# Altium integrated library Linear Technology Power Management Switching Regulator LT1074-LT8705.IntLib: 2252 symbols (part 102 of 148)
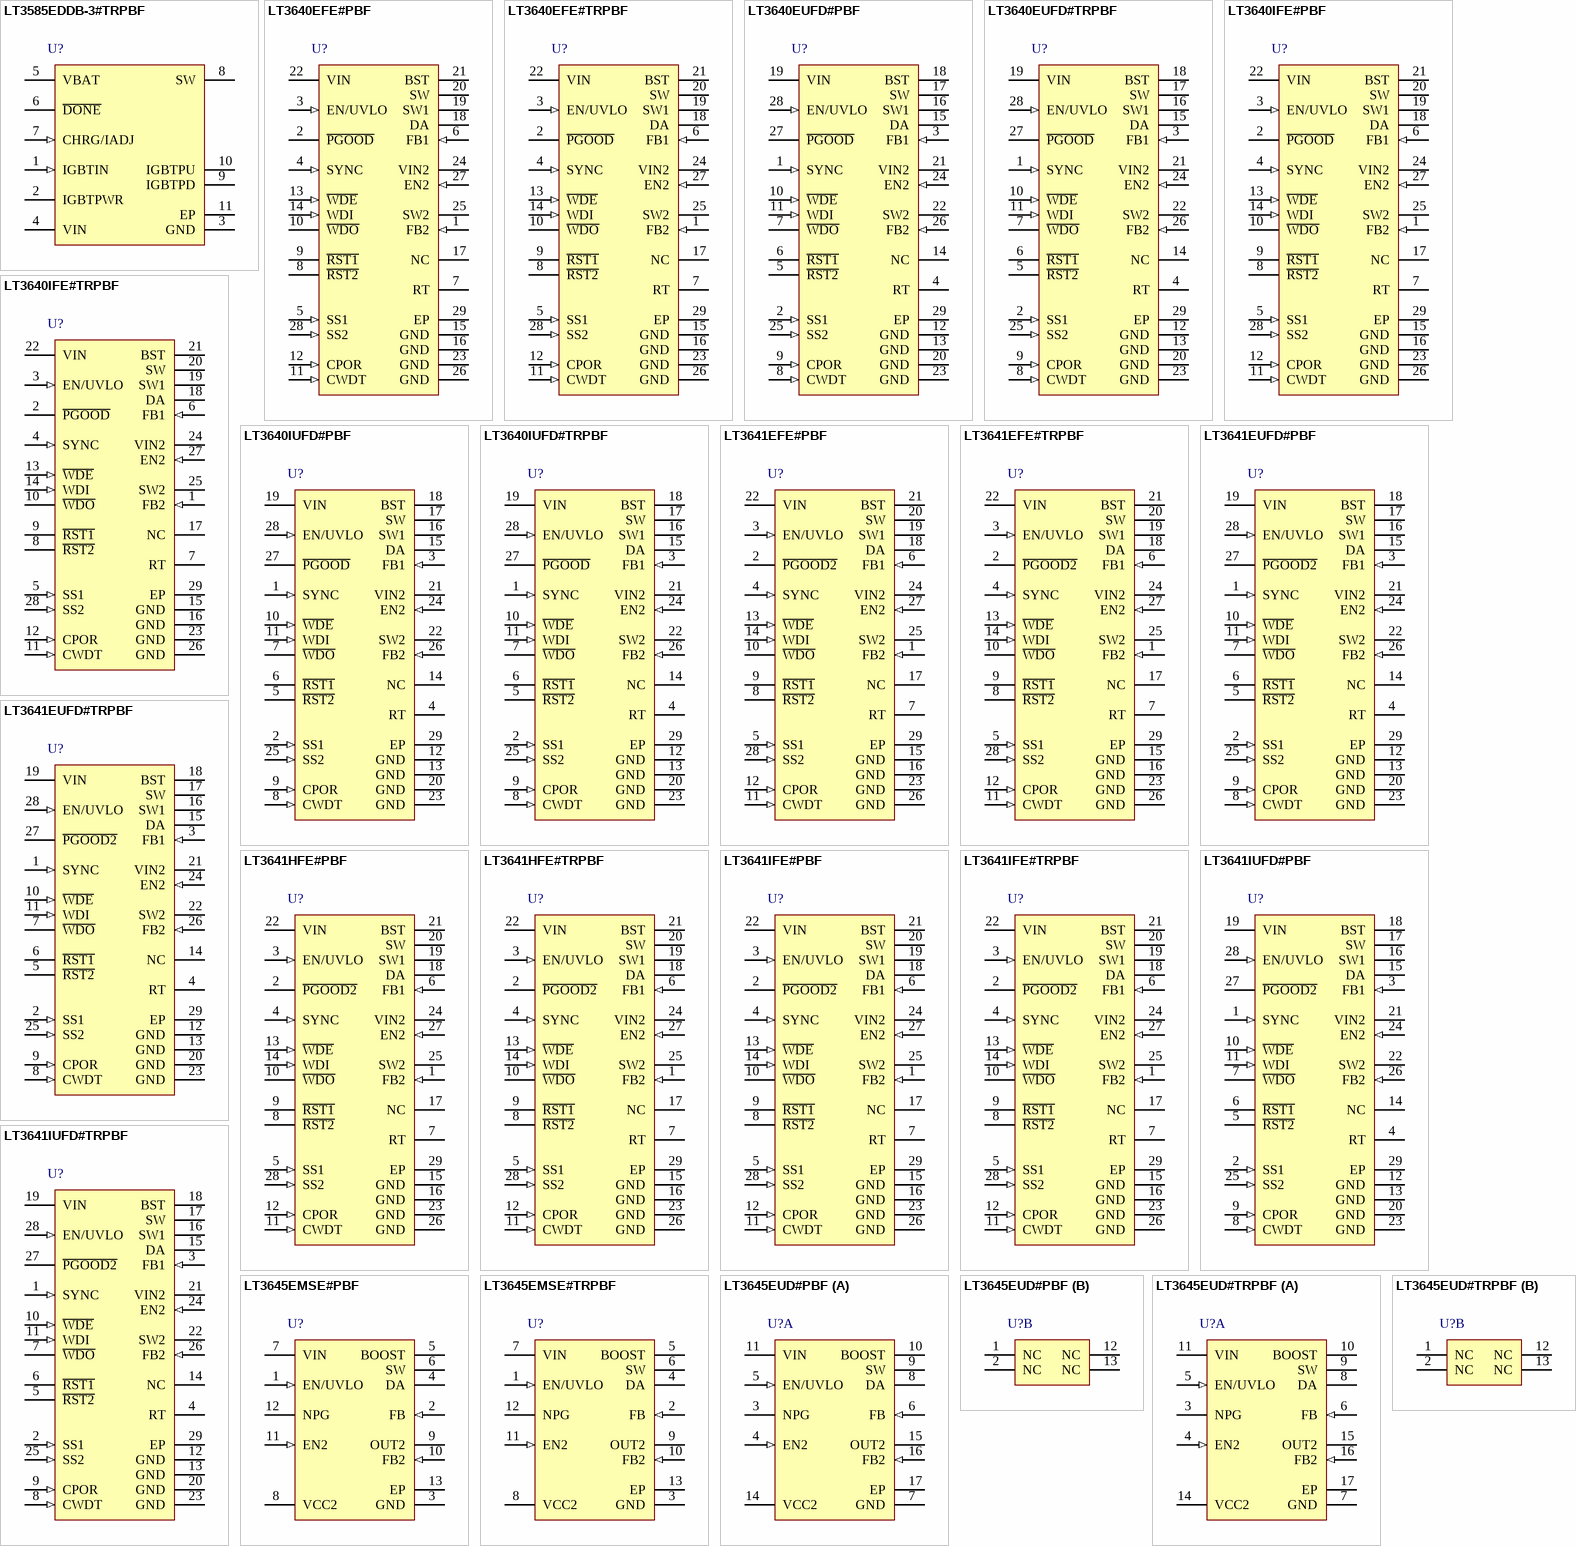
[diagram p172: symbols LT3585EDDB-3#TRPBF to LT3645EUD#TRPBF]

## LT3640IUFD#PBF
designator U?
Dual Monolithic Buck Regulator with Power-On Reset and Watchdog Timer, 28-pin QFN (UFD-28), -40 to 125 degC, Pb-Free; Manufacturer: Linear Technology; PartNumber: LT3640IUFD#PBF; Frequency Adjust Range: 350kHz - 2.5MHz; Number of Outputs: 2; Over Voltage Protection(V): 55; PackageVersion: Rev. B, 06/2010; PackageReference: UFD-28; PackageDescription: 28-Pin Plastic QFN, Body 5 x 4 mm, Pitch 0.5 mm; Supplier 1: Digi-Key; Supplier Part Number 1: LT3640IUFD#PBF-ND; RoHS: TRUE; Mounting Technology: Surface Mount; Code_JEDEC: MO-220; ComponentLink1Description: Manufacturer URL; ComponentLink1URL: http://www.linear.com/; ComponentLink2Description: Datasheet; ComponentLink2URL: http://cds.linear.com/docs/en/datasheet/3640f.pdf; ComponentLink3Description: Package Specification; ComponentLink3URL: http://cds.linear.com/docs/en/packaging/QFN_28_05-08-1712.pdf
footprint LT-UFD-28_N (QFN, 28-Leads, Body 5.1x4.1mm, Pitch 0.5mm, Thermal Pad 3.65x2.65mm, IPC Medium Density)
footprint LT-UFD-28_L (QFN, 28-Leads, Body 5.1x4.1mm, Pitch 0.5mm, Thermal Pad 3.65x2.65mm, IPC High Density)
footprint LT-UFD-28_M (QFN, 28-Leads, Body 5.1x4.1mm, Pitch 0.5mm, Thermal Pad 3.65x2.65mm, IPC Low Density)
pins: 1 SYNC (in) "Driving the SYNC pin with an external clock signal synchronizes both converters to the applied frequency. The lowest external clock frequency should be 20% higher than the internal oscillator frequency.", 2 SS1 (in) "The SS1 pin sets the FB1 voltage externally between 0V and 1.265V, providing soft-start and tracking. Tie this pin 1.5V or higher to use the internal 1.265V reference. A capacitor to ground at this pin sets the ramp time to (See Datasheet)", 3 FB1 (in) "The high voltage converter regulates the FB1 pin to 1.265V. Connect the feedback resistor divider tap to this pin to set output voltage.", 4 RT "Oscillator Resistor Input. Connecting a resistor to ground from this pin sets the internal oscillator frequency.", 5 ~{RST2} (oc) "Open-drain logic output that remains asserted for the period set by the CPOR pin capacitor after FB2 goes above 550mV.", 6 ~{RST1} (oc) "Open-drain logic output that remains asserted for the period set by the CPOR pin capacitor after FB1 goes above 1.165V.", 7 ~{WDO} (oc) "Open-drain logic output that remains asserted for the period set by the CPOR pin capacitor if W\D\E\ is enabled and WDI pin is not driven by an appropriate signal.", 8 CWDT (in) "Connect a capacitor to ground at this pin to set watchdog timer.", 9 CPOR (in) "Connect a capacitor to ground at this pin to set the power-on reset timer and W\D\O\ output timer.", 10 ~{WDE} (in) "Watchdog Enable Pin.", 11 WDI (in) "The WDI pin receives watchdog signals from a microprocessor.", 12 GND (power) "Ground. These pins must be soldered to PCB ground.", 13 GND (power) "Ground. These pins must be soldered to PCB ground.", 14 NC "Not Connected. This pin can be connected to ground.", 15 DA "The DA pin is used to sense the catch diode current for current limit and protection. Connect this pin to catch diode anode.", 16 SW1 (power) "Output of the High Voltage Internal Power Switch. Connect this pin to the inductor and catch diode cathode.", 17 SW "The SW pin is used to charge the boost capacitor. Connect this pin to the boost capacitor.", 18 BST "The BST pin is used to provide a drive voltage, higher than VIN pin voltage, to the high voltage channel internal power switch. Connect an external boost diode to this pin.", 19 VIN (power) "The VIN pin supplies current to the LT3640’s internal circuitry and to the high voltage channel internal power switch. This pin must be locally bypassed.", 20 GND (power) "Ground. These pins must be soldered to PCB ground.", 21 VIN2 (power) "The VIN2 pin supplies current to the internal power MOSFET of the low voltage converter and to the LT3640’s internal circuitry when VIN2 is above 3V.", 22 SW2 (power) "Switch Node of the Low Voltage Converter. Connect this pin to an inductor.", 23 GND (power) "Ground. These pins must be soldered to PCB ground.", 24 EN2 (in) "Low Voltage Converter Enable Pin. Pull this pin below 0.3V to shut down the low voltage converter. Pull this pin above 1.5V to enable the low voltage converter.", 25 SS2 (in) "The SS2 pin sets the FB2 voltage externally between 0V and 0.6V, providing soft-start and tracking. Tie this pin 0.8V or higher to use the internal 0.6V reference. A capacitor to ground at this pin sets the ramp time to (See Datasheet)", 26 FB2 (in) "The low voltage converter regulates the FB2 pin to 600mV. Connect the feedback resistor divider tap to this pin to set output voltage.", 27 ~{PGOOD} (oc) "Open-drain logic output that starts to sink current when FB2 is in regulation.", 28 EN/UVLO (in) "Pull this pin below 0.3V to shut down the LT3640. The 1.26V threshold can function as an accurate undervoltage lockout, preventing the LT3640 from operating until VIN voltage has reached the programmed level.", 29 EP (power) "Ground. These pins must be soldered to PCB ground."

## LT3640IUFD#TRPBF
designator U?
Dual Monolithic Buck Regulator with Power-On Reset and Watchdog Timer, 28-pin QFN (UFD-28), -40 to 125 degC, Pb-Free, Tape and Reel; Manufacturer: Linear Technology; PartNumber: LT3640IUFD#TRPBF; Frequency Adjust Range: 350kHz - 2.5MHz; Number of Outputs: 2; Over Voltage Protection(V): 55; PackageVersion: Rev. B, 06/2010; PackageReference: UFD-28; PackageDescription: 28-Pin Plastic QFN, Body 5 x 4 mm, Pitch 0.5 mm; Supplier 1: Digi-Key; Supplier Part Number 1: LT3640IUFD#TRPBF-ND; Packing: Tape and Reel; RoHS: TRUE; Mounting Technology: Surface Mount; Code_JEDEC: MO-220; ComponentLink1Description: Manufacturer URL; ComponentLink1URL: http://www.linear.com/; ComponentLink2Description: Datasheet; ComponentLink2URL: http://cds.linear.com/docs/en/datasheet/3640f.pdf; ComponentLink3Description: Package Specification; ComponentLink3URL: http://cds.linear.com/docs/en/packaging/QFN_28_05-08-1712.pdf
footprint LT-UFD-28_N (QFN, 28-Leads, Body 5.1x4.1mm, Pitch 0.5mm, Thermal Pad 3.65x2.65mm, IPC Medium Density)
footprint LT-UFD-28_L (QFN, 28-Leads, Body 5.1x4.1mm, Pitch 0.5mm, Thermal Pad 3.65x2.65mm, IPC High Density)
footprint LT-UFD-28_M (QFN, 28-Leads, Body 5.1x4.1mm, Pitch 0.5mm, Thermal Pad 3.65x2.65mm, IPC Low Density)
pins: 1 SYNC (in) "Driving the SYNC pin with an external clock signal synchronizes both converters to the applied frequency. The lowest external clock frequency should be 20% higher than the internal oscillator frequency.", 2 SS1 (in) "The SS1 pin sets the FB1 voltage externally between 0V and 1.265V, providing soft-start and tracking. Tie this pin 1.5V or higher to use the internal 1.265V reference. A capacitor to ground at this pin sets the ramp time to (See Datasheet)", 3 FB1 (in) "The high voltage converter regulates the FB1 pin to 1.265V. Connect the feedback resistor divider tap to this pin to set output voltage.", 4 RT "Oscillator Resistor Input. Connecting a resistor to ground from this pin sets the internal oscillator frequency.", 5 ~{RST2} (oc) "Open-drain logic output that remains asserted for the period set by the CPOR pin capacitor after FB2 goes above 550mV.", 6 ~{RST1} (oc) "Open-drain logic output that remains asserted for the period set by the CPOR pin capacitor after FB1 goes above 1.165V.", 7 ~{WDO} (oc) "Open-drain logic output that remains asserted for the period set by the CPOR pin capacitor if W\D\E\ is enabled and WDI pin is not driven by an appropriate signal.", 8 CWDT (in) "Connect a capacitor to ground at this pin to set watchdog timer.", 9 CPOR (in) "Connect a capacitor to ground at this pin to set the power-on reset timer and W\D\O\ output timer.", 10 ~{WDE} (in) "Watchdog Enable Pin.", 11 WDI (in) "The WDI pin receives watchdog signals from a microprocessor.", 12 GND (power) "Ground. These pins must be soldered to PCB ground.", 13 GND (power) "Ground. These pins must be soldered to PCB ground.", 14 NC "Not Connected. This pin can be connected to ground.", 15 DA "The DA pin is used to sense the catch diode current for current limit and protection. Connect this pin to catch diode anode.", 16 SW1 (power) "Output of the High Voltage Internal Power Switch. Connect this pin to the inductor and catch diode cathode.", 17 SW "The SW pin is used to charge the boost capacitor. Connect this pin to the boost capacitor.", 18 BST "The BST pin is used to provide a drive voltage, higher than VIN pin voltage, to the high voltage channel internal power switch. Connect an external boost diode to this pin.", 19 VIN (power) "The VIN pin supplies current to the LT3640’s internal circuitry and to the high voltage channel internal power switch. This pin must be locally bypassed.", 20 GND (power) "Ground. These pins must be soldered to PCB ground.", 21 VIN2 (power) "The VIN2 pin supplies current to the internal power MOSFET of the low voltage converter and to the LT3640’s internal circuitry when VIN2 is above 3V.", 22 SW2 (power) "Switch Node of the Low Voltage Converter. Connect this pin to an inductor.", 23 GND (power) "Ground. These pins must be soldered to PCB ground.", 24 EN2 (in) "Low Voltage Converter Enable Pin. Pull this pin below 0.3V to shut down the low voltage converter. Pull this pin above 1.5V to enable the low voltage converter.", 25 SS2 (in) "The SS2 pin sets the FB2 voltage externally between 0V and 0.6V, providing soft-start and tracking. Tie this pin 0.8V or higher to use the internal 0.6V reference. A capacitor to ground at this pin sets the ramp time to (See Datasheet)", 26 FB2 (in) "The low voltage converter regulates the FB2 pin to 600mV. Connect the feedback resistor divider tap to this pin to set output voltage.", 27 ~{PGOOD} (oc) "Open-drain logic output that starts to sink current when FB2 is in regulation.", 28 EN/UVLO (in) "Pull this pin below 0.3V to shut down the LT3640. The 1.26V threshold can function as an accurate undervoltage lockout, preventing the LT3640 from operating until VIN voltage has reached the programmed level.", 29 EP (power) "Ground. These pins must be soldered to PCB ground."

## LT3641EFE#PBF
designator U?
Dual Monolithic Buck Regulator with Power on Reset and Watchdog Timer, 28-pin SOP (FE-28-EPV-EB), -40 to 125 degC, Pb-Free; Manufacturer: Linear Technology; PartNumber: LT3641EFE#PBF; Frequency Adjust Range: 350kHz - 2.5MHz; Number of Outputs: 2; Over Voltage Protection(V): 55; DatasheetVersion: Rev. A; PackageVersion: Rev. J, 11/2012; PackageReference: FE-28; PackageDescription: 28-Pin Plastic TSSOP, Body 9.7 x 4.4 mm, Pitch 0.65 mm; Supplier 1: Digi-Key; Supplier Part Number 1: LT3641EFE#PBF-ND; Supplier 2: Farnell; Supplier Part Number 2: 2009062; RoHS: TRUE; Mounting Technology: Surface Mount; ComponentLink1Description: Manufacturer URL; ComponentLink1URL: http://www.linear.com/; ComponentLink2Description: Datasheet; ComponentLink2URL: http://cds.linear.com/docs/en/datasheet/3641fa.pdf; ComponentLink3Description: Package Specification; ComponentLink3URL: http://cds.linear.com/docs/en/packaging/05081663__J_FE28(EB).pdf
footprint LT-FE-28-EPV-EB_N (SOP, 28-Leads, Body 9.8x4.5mm, Pitch 0.65mm, Thermal Pad 4.75x2.74mm, IPC Medium Density)
footprint LT-FE-28-EPV-EB_L (SOP, 28-Leads, Body 9.8x4.5mm, Pitch 0.65mm, Thermal Pad 4.75x2.74mm, IPC High Density)
footprint LT-FE-28-EPV-EB_M (SOP, 28-Leads, Body 9.8x4.5mm, Pitch 0.65mm, Thermal Pad 4.75x2.74mm, IPC Low Density)
pins: 1 FB2 (in) "The low voltage converter regulates the FB2 pin to 600mV. Connect the feedback resistor divider tap to this pin to set output voltage.", 2 ~{PGOOD2} (oc) "Open-drain logic output that starts to sink current when FB2 is in regulation.", 3 EN/UVLO (in) "Pull this pin below 0.3V to shut down the LT3641. The 1.26V threshold can function as an accurate undervoltage lockout, preventing the LT3641 from operating until VIN voltage has reached the programmed level.", 4 SYNC (in) "Driving the SYNC pin with an external clock signal synchronizes both converters to the applied frequency. The lowest external clock frequency should be 20% higher than the internal oscillator frequency.", 5 SS1 (in) "The SS1 pin sets the FB1 voltage externally between 0V and 1.265V, providing soft-start and tracking. Tie this pin 1.5V or higher to use the internal 1.265V reference. A capacitor to ground at this pin sets the ramp time to (See Datasheet)", 6 FB1 (in) "The high voltage converter regulates the FB1 pin to 1.265V. Connect the feedback resistor divider tap to this pin to set output voltage.", 7 RT "Oscillator Resistor Input. Connecting a resistor to ground from this pin sets the internal oscillator frequency.", 8 ~{RST2} (oc) "Open-drain logic output that remains asserted for the period set by the CPOR pin capacitor after FB2 goes above 550mV.", 9 ~{RST1} (oc) "Open-drain logic output that remains asserted for the period set by the CPOR pin capacitor after FB1 goes above 1.165V.", 10 ~{WDO} (oc) "Open-drain logic output that remains asserted for the period set by the CPOR pin capacitor if W\D\E\ is enabled and WDI pin is not driven by an appropriate signal.", 11 CWDT (in) "Connect a capacitor to ground at this pin to set watchdog timer.", 12 CPOR (in) "Connect a capacitor to ground at this pin to set the power-on reset timer and W\D\O\ output timer.", 13 ~{WDE} (in) "Watchdog Enable Pin.", 14 WDI (in) "The WDI pin receives watchdog signals from a microprocessor.", 15 GND (power) "Ground. These pins must be soldered to PCB ground.", 16 GND (power) "Ground. These pins must be soldered to PCB ground.", 17 NC "Not Connected. This pin can be connected to ground.", 18 DA "The DA pin is used to sense the catch diode current for current limit and protection. Connect this pin to catch diode anode.", 19 SW1 (power) "Output of the High Voltage Internal Power Switch. Connect this pin to the inductor and catch diode cathode.", 20 SW "The SW pin is used to charge the boost capacitor. Connect this pin to the boost capacitor", 21 BST "The BST pin is used to provide a drive voltage, higher than VIN pin voltage, to the high voltage channel internal power switch. Connect an external boost diode to this pin.", 22 VIN (power) "The VIN pin supplies current to the LT3641’s internal circuitry and to the high voltage channel internal power switch. This pin must be locally bypassed.", 23 GND (power) "Ground. These pins must be soldered to PCB ground.", 24 VIN2 (power) "The VIN2 pin supplies current to the internal power MOSFET of the low voltage converter and to the LT3641’s internal circuitry when VIN2 is above 3V.", 25 SW2 (power) "Switch Node of the Low Voltage Converter. Connect this pin to an inductor.", 26 GND (power) "Ground. These pins must be soldered to PCB ground.", 27 EN2 (in) "Low Voltage Converter Enable Pin. The enable threshold is 100mV below FB1 target voltage. The disable threshold has 50mV hysteresis. The accurate threshold can function as an accurate undervoltage lockout.", 28 SS2 (in) "The SS2 pin sets the FB2 voltage externally between 0V and 0.6V, providing soft-start and tracking. Tie this pin 0.8V or higher to use the internal 0.6V reference. A capacitor to ground at this pin sets the ramp time to (See Datasheet)", 29 EP (power) "Ground. These pins must be soldered to PCB ground."

## LT3641EFE#TRPBF
designator U?
Dual Monolithic Buck Regulator with Power on Reset and Watchdog Timer, 28-pin SOP (FE-28-EPV-EB), -40 to 125 degC, Pb-Free, Tape and Reel; Manufacturer: Linear Technology; PartNumber: LT3641EFE#TRPBF; Frequency Adjust Range: 350kHz - 2.5MHz; Number of Outputs: 2; Over Voltage Protection(V): 55; DatasheetVersion: Rev. A; PackageVersion: Rev. J, 11/2012; PackageReference: FE-28; PackageDescription: 28-Pin Plastic TSSOP, Body 9.7 x 4.4 mm, Pitch 0.65 mm; Supplier 1: Digi-Key; Supplier Part Number 1: LT3641EFE#TRPBF-ND; Packing: Tape and Reel; RoHS: TRUE; Mounting Technology: Surface Mount; ComponentLink1Description: Manufacturer URL; ComponentLink1URL: http://www.linear.com/; ComponentLink2Description: Datasheet; ComponentLink2URL: http://cds.linear.com/docs/en/datasheet/3641fa.pdf; ComponentLink3Description: Package Specification; ComponentLink3URL: http://cds.linear.com/docs/en/packaging/05081663__J_FE28(EB).pdf
footprint LT-FE-28-EPV-EB_N (SOP, 28-Leads, Body 9.8x4.5mm, Pitch 0.65mm, Thermal Pad 4.75x2.74mm, IPC Medium Density)
footprint LT-FE-28-EPV-EB_L (SOP, 28-Leads, Body 9.8x4.5mm, Pitch 0.65mm, Thermal Pad 4.75x2.74mm, IPC High Density)
footprint LT-FE-28-EPV-EB_M (SOP, 28-Leads, Body 9.8x4.5mm, Pitch 0.65mm, Thermal Pad 4.75x2.74mm, IPC Low Density)
pins: 1 FB2 (in) "The low voltage converter regulates the FB2 pin to 600mV. Connect the feedback resistor divider tap to this pin to set output voltage.", 2 ~{PGOOD2} (oc) "Open-drain logic output that starts to sink current when FB2 is in regulation.", 3 EN/UVLO (in) "Pull this pin below 0.3V to shut down the LT3641. The 1.26V threshold can function as an accurate undervoltage lockout, preventing the LT3641 from operating until VIN voltage has reached the programmed level.", 4 SYNC (in) "Driving the SYNC pin with an external clock signal synchronizes both converters to the applied frequency. The lowest external clock frequency should be 20% higher than the internal oscillator frequency.", 5 SS1 (in) "The SS1 pin sets the FB1 voltage externally between 0V and 1.265V, providing soft-start and tracking. Tie this pin 1.5V or higher to use the internal 1.265V reference. A capacitor to ground at this pin sets the ramp time to (See Datasheet)", 6 FB1 (in) "The high voltage converter regulates the FB1 pin to 1.265V. Connect the feedback resistor divider tap to this pin to set output voltage.", 7 RT "Oscillator Resistor Input. Connecting a resistor to ground from this pin sets the internal oscillator frequency.", 8 ~{RST2} (oc) "Open-drain logic output that remains asserted for the period set by the CPOR pin capacitor after FB2 goes above 550mV.", 9 ~{RST1} (oc) "Open-drain logic output that remains asserted for the period set by the CPOR pin capacitor after FB1 goes above 1.165V.", 10 ~{WDO} (oc) "Open-drain logic output that remains asserted for the period set by the CPOR pin capacitor if W\D\E\ is enabled and WDI pin is not driven by an appropriate signal.", 11 CWDT (in) "Connect a capacitor to ground at this pin to set watchdog timer.", 12 CPOR (in) "Connect a capacitor to ground at this pin to set the power-on reset timer and W\D\O\ output timer.", 13 ~{WDE} (in) "Watchdog Enable Pin.", 14 WDI (in) "The WDI pin receives watchdog signals from a microprocessor.", 15 GND (power) "Ground. These pins must be soldered to PCB ground.", 16 GND (power) "Ground. These pins must be soldered to PCB ground.", 17 NC "Not Connected. This pin can be connected to ground.", 18 DA "The DA pin is used to sense the catch diode current for current limit and protection. Connect this pin to catch diode anode.", 19 SW1 (power) "Output of the High Voltage Internal Power Switch. Connect this pin to the inductor and catch diode cathode.", 20 SW "The SW pin is used to charge the boost capacitor. Connect this pin to the boost capacitor", 21 BST "The BST pin is used to provide a drive voltage, higher than VIN pin voltage, to the high voltage channel internal power switch. Connect an external boost diode to this pin.", 22 VIN (power) "The VIN pin supplies current to the LT3641’s internal circuitry and to the high voltage channel internal power switch. This pin must be locally bypassed.", 23 GND (power) "Ground. These pins must be soldered to PCB ground.", 24 VIN2 (power) "The VIN2 pin supplies current to the internal power MOSFET of the low voltage converter and to the LT3641’s internal circuitry when VIN2 is above 3V.", 25 SW2 (power) "Switch Node of the Low Voltage Converter. Connect this pin to an inductor.", 26 GND (power) "Ground. These pins must be soldered to PCB ground.", 27 EN2 (in) "Low Voltage Converter Enable Pin. The enable threshold is 100mV below FB1 target voltage. The disable threshold has 50mV hysteresis. The accurate threshold can function as an accurate undervoltage lockout.", 28 SS2 (in) "The SS2 pin sets the FB2 voltage externally between 0V and 0.6V, providing soft-start and tracking. Tie this pin 0.8V or higher to use the internal 0.6V reference. A capacitor to ground at this pin sets the ramp time to (See Datasheet)", 29 EP (power) "Ground. These pins must be soldered to PCB ground."

## LT3641EUFD#PBF
designator U?
Dual Monolithic Buck Regulator with Power on Reset and Watchdog Timer, 28-pin QFN (UFD-28), -40 to 125 degC, Pb-Free; Manufacturer: Linear Technology; PartNumber: LT3641EUFD#PBF; Frequency Adjust Range: 350kHz - 2.5MHz; Number of Outputs: 2; Over Voltage Protection(V): 55; DatasheetVersion: Rev. A; PackageVersion: Rev. B, 06/2010; PackageReference: UFD-28; PackageDescription: 28-Pin Plastic QFN, Body 5 x 4 mm, Pitch 0.5 mm; Supplier 1: Digi-Key; Supplier Part Number 1: LT3641EUFD#PBF-ND; RoHS: TRUE; Mounting Technology: Surface Mount; Code_JEDEC: MO-220; ComponentLink1Description: Manufacturer URL; ComponentLink1URL: http://www.linear.com/; ComponentLink2Description: Datasheet; ComponentLink2URL: http://cds.linear.com/docs/en/datasheet/3641fa.pdf; ComponentLink3Description: Package Specification; ComponentLink3URL: http://cds.linear.com/docs/en/packaging/QFN_28_05-08-1712.pdf
footprint LT-UFD-28_N (QFN, 28-Leads, Body 5.1x4.1mm, Pitch 0.5mm, Thermal Pad 3.65x2.65mm, IPC Medium Density)
footprint LT-UFD-28_L (QFN, 28-Leads, Body 5.1x4.1mm, Pitch 0.5mm, Thermal Pad 3.65x2.65mm, IPC High Density)
footprint LT-UFD-28_M (QFN, 28-Leads, Body 5.1x4.1mm, Pitch 0.5mm, Thermal Pad 3.65x2.65mm, IPC Low Density)
pins: 1 SYNC (in) "Driving the SYNC pin with an external clock signal synchronizes both converters to the applied frequency. The lowest external clock frequency should be 20% higher than the internal oscillator frequency.", 2 SS1 (in) "The SS1 pin sets the FB1 voltage externally between 0V and 1.265V, providing soft-start and tracking. Tie this pin 1.5V or higher to use the internal 1.265V reference. A capacitor to ground at this pin sets the ramp time to (See Datasheet)", 3 FB1 (in) "The high voltage converter regulates the FB1 pin to 1.265V. Connect the feedback resistor divider tap to this pin to set output voltage.", 4 RT "Oscillator Resistor Input. Connecting a resistor to ground from this pin sets the internal oscillator frequency.", 5 ~{RST2} (oc) "Open-drain logic output that remains asserted for the period set by the CPOR pin capacitor after FB2 goes above 550mV.", 6 ~{RST1} (oc) "Open-drain logic output that remains asserted for the period set by the CPOR pin capacitor after FB1 goes above 1.165V.", 7 ~{WDO} (oc) "Open-drain logic output that remains asserted for the period set by the CPOR pin capacitor if W\D\E\ is enabled and WDI pin is not driven by an appropriate signal.", 8 CWDT (in) "Connect a capacitor to ground at this pin to set watchdog timer.", 9 CPOR (in) "Connect a capacitor to ground at this pin to set the power-on reset timer and W\D\O\ output timer.", 10 ~{WDE} (in) "Watchdog Enable Pin.", 11 WDI (in) "The WDI pin receives watchdog signals from a microprocessor.", 12 GND (power) "Ground. These pins must be soldered to PCB ground.", 13 GND (power) "Ground. These pins must be soldered to PCB ground.", 14 NC "Not Connected. This pin can be connected to ground.", 15 DA "The DA pin is used to sense the catch diode current for current limit and protection. Connect this pin to catch diode anode.", 16 SW1 (power) "Output of the High Voltage Internal Power Switch. Connect this pin to the inductor and catch diode cathode.", 17 SW "The SW pin is used to charge the boost capacitor. Connect this pin to the boost capacitor", 18 BST (power) "The BST pin is used to provide a drive voltage, higher than VIN pin voltage, to the high voltage channel internal power switch. Connect an external boost diode to this pin.", 19 VIN (power) "The VIN pin supplies current to the LT3641’s internal circuitry and to the high voltage channel internal power switch. This pin must be locally bypassed.", 20 GND (power) "Ground. These pins must be soldered to PCB ground.", 21 VIN2 (power) "The VIN2 pin supplies current to the internal power MOSFET of the low voltage converter and to the LT3641’s internal circuitry when VIN2 is above 3V.", 22 SW2 (power) "Switch Node of the Low Voltage Converter. Connect this pin to an inductor.", 23 GND (power) "Ground. These pins must be soldered to PCB ground.", 24 EN2 (in) "Low Voltage Converter Enable Pin. The enable threshold is 100mV below FB1 target voltage. The disable threshold has 50mV hysteresis. The accurate threshold can function as an accurate undervoltage lockout.", 25 SS2 (in) "The SS2 pin sets the FB2 voltage externally between 0V and 0.6V, providing soft-start and tracking. Tie this pin 0.8V or higher to use the internal 0.6V reference. A capacitor to ground at this pin sets the ramp time to (See Datasheet)", 26 FB2 (in) "The low voltage converter regulates the FB2 pin to 600mV. Connect the feedback resistor divider tap to this pin to set output voltage.", 27 ~{PGOOD2} (oc) "Open-drain logic output that starts to sink current when FB2 is in regulation.", 28 EN/UVLO (in) "Pull this pin below 0.3V to shut down the LT3641. The 1.26V threshold can function as an accurate undervoltage lockout, preventing the LT3641 from operating until VIN voltage has reached the programmed level.", 29 EP (power) "Ground. These pins must be soldered to PCB ground."

## LT3641EUFD#TRPBF
designator U?
Dual Monolithic Buck Regulator with Power on Reset and Watchdog Timer, 28-pin QFN (UFD-28), -40 to 125 degC, Pb-Free, Tape and Reel; Manufacturer: Linear Technology; PartNumber: LT3641EUFD#TRPBF; Frequency Adjust Range: 350kHz - 2.5MHz; Number of Outputs: 2; Over Voltage Protection(V): 55; DatasheetVersion: Rev. A; PackageVersion: Rev. B, 06/2010; PackageReference: UFD-28; PackageDescription: 28-Pin Plastic QFN, Body 5 x 4 mm, Pitch 0.5 mm; Supplier 1: Digi-Key; Supplier Part Number 1: LT3641EUFD#TRPBF-ND; Packing: Tape and Reel; RoHS: TRUE; Mounting Technology: Surface Mount; Code_JEDEC: MO-220; ComponentLink1Description: Manufacturer URL; ComponentLink1URL: http://www.linear.com/; ComponentLink2Description: Datasheet; ComponentLink2URL: http://cds.linear.com/docs/en/datasheet/3641fa.pdf; ComponentLink3Description: Package Specification; ComponentLink3URL: http://cds.linear.com/docs/en/packaging/QFN_28_05-08-1712.pdf
footprint LT-UFD-28_N (QFN, 28-Leads, Body 5.1x4.1mm, Pitch 0.5mm, Thermal Pad 3.65x2.65mm, IPC Medium Density)
footprint LT-UFD-28_L (QFN, 28-Leads, Body 5.1x4.1mm, Pitch 0.5mm, Thermal Pad 3.65x2.65mm, IPC High Density)
footprint LT-UFD-28_M (QFN, 28-Leads, Body 5.1x4.1mm, Pitch 0.5mm, Thermal Pad 3.65x2.65mm, IPC Low Density)
pins: 1 SYNC (in) "Driving the SYNC pin with an external clock signal synchronizes both converters to the applied frequency. The lowest external clock frequency should be 20% higher than the internal oscillator frequency.", 2 SS1 (in) "The SS1 pin sets the FB1 voltage externally between 0V and 1.265V, providing soft-start and tracking. Tie this pin 1.5V or higher to use the internal 1.265V reference. A capacitor to ground at this pin sets the ramp time to (See Datasheet)", 3 FB1 (in) "The high voltage converter regulates the FB1 pin to 1.265V. Connect the feedback resistor divider tap to this pin to set output voltage.", 4 RT "Oscillator Resistor Input. Connecting a resistor to ground from this pin sets the internal oscillator frequency.", 5 ~{RST2} (oc) "Open-drain logic output that remains asserted for the period set by the CPOR pin capacitor after FB2 goes above 550mV.", 6 ~{RST1} (oc) "Open-drain logic output that remains asserted for the period set by the CPOR pin capacitor after FB1 goes above 1.165V.", 7 ~{WDO} (oc) "Open-drain logic output that remains asserted for the period set by the CPOR pin capacitor if W\D\E\ is enabled and WDI pin is not driven by an appropriate signal.", 8 CWDT (in) "Connect a capacitor to ground at this pin to set watchdog timer.", 9 CPOR (in) "Connect a capacitor to ground at this pin to set the power-on reset timer and W\D\O\ output timer.", 10 ~{WDE} (in) "Watchdog Enable Pin.", 11 WDI (in) "The WDI pin receives watchdog signals from a microprocessor.", 12 GND (power) "Ground. These pins must be soldered to PCB ground.", 13 GND (power) "Ground. These pins must be soldered to PCB ground.", 14 NC "Not Connected. This pin can be connected to ground.", 15 DA "The DA pin is used to sense the catch diode current for current limit and protection. Connect this pin to catch diode anode.", 16 SW1 (power) "Output of the High Voltage Internal Power Switch. Connect this pin to the inductor and catch diode cathode.", 17 SW "The SW pin is used to charge the boost capacitor. Connect this pin to the boost capacitor", 18 BST (power) "The BST pin is used to provide a drive voltage, higher than VIN pin voltage, to the high voltage channel internal power switch. Connect an external boost diode to this pin.", 19 VIN (power) "The VIN pin supplies current to the LT3641’s internal circuitry and to the high voltage channel internal power switch. This pin must be locally bypassed.", 20 GND (power) "Ground. These pins must be soldered to PCB ground.", 21 VIN2 (power) "The VIN2 pin supplies current to the internal power MOSFET of the low voltage converter and to the LT3641’s internal circuitry when VIN2 is above 3V.", 22 SW2 (power) "Switch Node of the Low Voltage Converter. Connect this pin to an inductor.", 23 GND (power) "Ground. These pins must be soldered to PCB ground.", 24 EN2 (in) "Low Voltage Converter Enable Pin. The enable threshold is 100mV below FB1 target voltage. The disable threshold has 50mV hysteresis. The accurate threshold can function as an accurate undervoltage lockout.", 25 SS2 (in) "The SS2 pin sets the FB2 voltage externally between 0V and 0.6V, providing soft-start and tracking. Tie this pin 0.8V or higher to use the internal 0.6V reference. A capacitor to ground at this pin sets the ramp time to (See Datasheet)", 26 FB2 (in) "The low voltage converter regulates the FB2 pin to 600mV. Connect the feedback resistor divider tap to this pin to set output voltage.", 27 ~{PGOOD2} (oc) "Open-drain logic output that starts to sink current when FB2 is in regulation.", 28 EN/UVLO (in) "Pull this pin below 0.3V to shut down the LT3641. The 1.26V threshold can function as an accurate undervoltage lockout, preventing the LT3641 from operating until VIN voltage has reached the programmed level.", 29 EP (power) "Ground. These pins must be soldered to PCB ground."

## LT3641HFE#PBF
designator U?
Dual Monolithic Buck Regulator with Power on Reset and Watchdog Timer, 28-pin SOP (FE-28-EPV-EB), -40 to 150 degC, Pb-Free; Manufacturer: Linear Technology; PartNumber: LT3641HFE#PBF; Frequency Adjust Range: 350kHz - 2.5MHz; Number of Outputs: 2; Over Voltage Protection(V): 55; DatasheetVersion: Rev. A; PackageVersion: Rev. J, 11/2012; PackageReference: FE-28; PackageDescription: 28-Pin Plastic TSSOP, Body 9.7 x 4.4 mm, Pitch 0.65 mm; Supplier 1: Digi-Key; Supplier Part Number 1: LT3641HFE#PBF-ND; RoHS: TRUE; Mounting Technology: Surface Mount; ComponentLink1Description: Manufacturer URL; ComponentLink1URL: http://www.linear.com/; ComponentLink2Description: Datasheet; ComponentLink2URL: http://cds.linear.com/docs/en/datasheet/3641fa.pdf; ComponentLink3Description: Package Specification; ComponentLink3URL: http://cds.linear.com/docs/en/packaging/05081663__J_FE28(EB).pdf
footprint LT-FE-28-EPV-EB_N (SOP, 28-Leads, Body 9.8x4.5mm, Pitch 0.65mm, Thermal Pad 4.75x2.74mm, IPC Medium Density)
footprint LT-FE-28-EPV-EB_L (SOP, 28-Leads, Body 9.8x4.5mm, Pitch 0.65mm, Thermal Pad 4.75x2.74mm, IPC High Density)
footprint LT-FE-28-EPV-EB_M (SOP, 28-Leads, Body 9.8x4.5mm, Pitch 0.65mm, Thermal Pad 4.75x2.74mm, IPC Low Density)
pins: 1 FB2 (in) "The low voltage converter regulates the FB2 pin to 600mV. Connect the feedback resistor divider tap to this pin to set output voltage.", 2 ~{PGOOD2} (oc) "Open-drain logic output that starts to sink current when FB2 is in regulation.", 3 EN/UVLO (in) "Pull this pin below 0.3V to shut down the LT3641. The 1.26V threshold can function as an accurate undervoltage lockout, preventing the LT3641 from operating until VIN voltage has reached the programmed level.", 4 SYNC (in) "Driving the SYNC pin with an external clock signal synchronizes both converters to the applied frequency. The lowest external clock frequency should be 20% higher than the internal oscillator frequency.", 5 SS1 (in) "The SS1 pin sets the FB1 voltage externally between 0V and 1.265V, providing soft-start and tracking. Tie this pin 1.5V or higher to use the internal 1.265V reference. A capacitor to ground at this pin sets the ramp time to (See Datasheet)", 6 FB1 (in) "The high voltage converter regulates the FB1 pin to 1.265V. Connect the feedback resistor divider tap to this pin to set output voltage.", 7 RT "Oscillator Resistor Input. Connecting a resistor to ground from this pin sets the internal oscillator frequency.", 8 ~{RST2} (oc) "Open-drain logic output that remains asserted for the period set by the CPOR pin capacitor after FB2 goes above 550mV.", 9 ~{RST1} (oc) "Open-drain logic output that remains asserted for the period set by the CPOR pin capacitor after FB1 goes above 1.165V.", 10 ~{WDO} (oc) "Open-drain logic output that remains asserted for the period set by the CPOR pin capacitor if W\D\E\ is enabled and WDI pin is not driven by an appropriate signal.", 11 CWDT (in) "Connect a capacitor to ground at this pin to set watchdog timer.", 12 CPOR (in) "Connect a capacitor to ground at this pin to set the power-on reset timer and W\D\O\ output timer.", 13 ~{WDE} (in) "Watchdog Enable Pin.", 14 WDI (in) "The WDI pin receives watchdog signals from a microprocessor.", 15 GND (power) "Ground. These pins must be soldered to PCB ground.", 16 GND (power) "Ground. These pins must be soldered to PCB ground.", 17 NC "Not Connected. This pin can be connected to ground.", 18 DA "The DA pin is used to sense the catch diode current for current limit and protection. Connect this pin to catch diode anode.", 19 SW1 (power) "Output of the High Voltage Internal Power Switch. Connect this pin to the inductor and catch diode cathode.", 20 SW "The SW pin is used to charge the boost capacitor. Connect this pin to the boost capacitor", 21 BST "The BST pin is used to provide a drive voltage, higher than VIN pin voltage, to the high voltage channel internal power switch. Connect an external boost diode to this pin.", 22 VIN (power) "The VIN pin supplies current to the LT3641’s internal circuitry and to the high voltage channel internal power switch. This pin must be locally bypassed.", 23 GND (power) "Ground. These pins must be soldered to PCB ground.", 24 VIN2 (power) "The VIN2 pin supplies current to the internal power MOSFET of the low voltage converter and to the LT3641’s internal circuitry when VIN2 is above 3V.", 25 SW2 (power) "Switch Node of the Low Voltage Converter. Connect this pin to an inductor.", 26 GND (power) "Ground. These pins must be soldered to PCB ground.", 27 EN2 (in) "Low Voltage Converter Enable Pin. The enable threshold is 100mV below FB1 target voltage. The disable threshold has 50mV hysteresis. The accurate threshold can function as an accurate undervoltage lockout.", 28 SS2 (in) "The SS2 pin sets the FB2 voltage externally between 0V and 0.6V, providing soft-start and tracking. Tie this pin 0.8V or higher to use the internal 0.6V reference. A capacitor to ground at this pin sets the ramp time to (See Datasheet)", 29 EP (power) "Ground. These pins must be soldered to PCB ground."

## LT3641HFE#TRPBF
designator U?
Dual Monolithic Buck Regulator with Power on Reset and Watchdog Timer, 28-pin SOP (FE-28-EPV-EB), -40 to 150 degC, Pb-Free, Tape and Reel; Manufacturer: Linear Technology; PartNumber: LT3641HFE#TRPBF; Frequency Adjust Range: 350kHz - 2.5MHz; Number of Outputs: 2; Over Voltage Protection(V): 55; DatasheetVersion: Rev. A; PackageVersion: Rev. J, 11/2012; PackageReference: FE-28; PackageDescription: 28-Pin Plastic TSSOP, Body 9.7 x 4.4 mm, Pitch 0.65 mm; Supplier 1: Digi-Key; Supplier Part Number 1: LT3641HFE#TRPBF-ND; Packing: Tape and Reel; RoHS: TRUE; Mounting Technology: Surface Mount; ComponentLink1Description: Manufacturer URL; ComponentLink1URL: http://www.linear.com/; ComponentLink2Description: Datasheet; ComponentLink2URL: http://cds.linear.com/docs/en/datasheet/3641fa.pdf; ComponentLink3Description: Package Specification; ComponentLink3URL: http://cds.linear.com/docs/en/packaging/05081663__J_FE28(EB).pdf
footprint LT-FE-28-EPV-EB_N (SOP, 28-Leads, Body 9.8x4.5mm, Pitch 0.65mm, Thermal Pad 4.75x2.74mm, IPC Medium Density)
footprint LT-FE-28-EPV-EB_L (SOP, 28-Leads, Body 9.8x4.5mm, Pitch 0.65mm, Thermal Pad 4.75x2.74mm, IPC High Density)
footprint LT-FE-28-EPV-EB_M (SOP, 28-Leads, Body 9.8x4.5mm, Pitch 0.65mm, Thermal Pad 4.75x2.74mm, IPC Low Density)
pins: 1 FB2 (in) "The low voltage converter regulates the FB2 pin to 600mV. Connect the feedback resistor divider tap to this pin to set output voltage.", 2 ~{PGOOD2} (oc) "Open-drain logic output that starts to sink current when FB2 is in regulation.", 3 EN/UVLO (in) "Pull this pin below 0.3V to shut down the LT3641. The 1.26V threshold can function as an accurate undervoltage lockout, preventing the LT3641 from operating until VIN voltage has reached the programmed level.", 4 SYNC (in) "Driving the SYNC pin with an external clock signal synchronizes both converters to the applied frequency. The lowest external clock frequency should be 20% higher than the internal oscillator frequency.", 5 SS1 (in) "The SS1 pin sets the FB1 voltage externally between 0V and 1.265V, providing soft-start and tracking. Tie this pin 1.5V or higher to use the internal 1.265V reference. A capacitor to ground at this pin sets the ramp time to (See Datasheet)", 6 FB1 (in) "The high voltage converter regulates the FB1 pin to 1.265V. Connect the feedback resistor divider tap to this pin to set output voltage.", 7 RT "Oscillator Resistor Input. Connecting a resistor to ground from this pin sets the internal oscillator frequency.", 8 ~{RST2} (oc) "Open-drain logic output that remains asserted for the period set by the CPOR pin capacitor after FB2 goes above 550mV.", 9 ~{RST1} (oc) "Open-drain logic output that remains asserted for the period set by the CPOR pin capacitor after FB1 goes above 1.165V.", 10 ~{WDO} (oc) "Open-drain logic output that remains asserted for the period set by the CPOR pin capacitor if W\D\E\ is enabled and WDI pin is not driven by an appropriate signal.", 11 CWDT (in) "Connect a capacitor to ground at this pin to set watchdog timer.", 12 CPOR (in) "Connect a capacitor to ground at this pin to set the power-on reset timer and W\D\O\ output timer.", 13 ~{WDE} (in) "Watchdog Enable Pin.", 14 WDI (in) "The WDI pin receives watchdog signals from a microprocessor.", 15 GND (power) "Ground. These pins must be soldered to PCB ground.", 16 GND (power) "Ground. These pins must be soldered to PCB ground.", 17 NC "Not Connected. This pin can be connected to ground.", 18 DA "The DA pin is used to sense the catch diode current for current limit and protection. Connect this pin to catch diode anode.", 19 SW1 (power) "Output of the High Voltage Internal Power Switch. Connect this pin to the inductor and catch diode cathode.", 20 SW "The SW pin is used to charge the boost capacitor. Connect this pin to the boost capacitor", 21 BST "The BST pin is used to provide a drive voltage, higher than VIN pin voltage, to the high voltage channel internal power switch. Connect an external boost diode to this pin.", 22 VIN (power) "The VIN pin supplies current to the LT3641’s internal circuitry and to the high voltage channel internal power switch. This pin must be locally bypassed.", 23 GND (power) "Ground. These pins must be soldered to PCB ground.", 24 VIN2 (power) "The VIN2 pin supplies current to the internal power MOSFET of the low voltage converter and to the LT3641’s internal circuitry when VIN2 is above 3V.", 25 SW2 (power) "Switch Node of the Low Voltage Converter. Connect this pin to an inductor.", 26 GND (power) "Ground. These pins must be soldered to PCB ground.", 27 EN2 (in) "Low Voltage Converter Enable Pin. The enable threshold is 100mV below FB1 target voltage. The disable threshold has 50mV hysteresis. The accurate threshold can function as an accurate undervoltage lockout.", 28 SS2 (in) "The SS2 pin sets the FB2 voltage externally between 0V and 0.6V, providing soft-start and tracking. Tie this pin 0.8V or higher to use the internal 0.6V reference. A capacitor to ground at this pin sets the ramp time to (See Datasheet)", 29 EP (power) "Ground. These pins must be soldered to PCB ground."

## LT3641IFE#PBF
designator U?
Dual Monolithic Buck Regulator with Power on Reset and Watchdog Timer, 28-pin SOP (FE-28-EPV-EB), -40 to 125 degC, Pb-Free; Manufacturer: Linear Technology; PartNumber: LT3641IFE#PBF; Frequency Adjust Range: 350kHz - 2.5MHz; Number of Outputs: 2; Over Voltage Protection(V): 55; DatasheetVersion: Rev. A; PackageVersion: Rev. J, 11/2012; PackageReference: FE-28; PackageDescription: 28-Pin Plastic TSSOP, Body 9.7 x 4.4 mm, Pitch 0.65 mm; Supplier 1: Digi-Key; Supplier Part Number 1: LT3641IFE#PBF-ND; RoHS: TRUE; Mounting Technology: Surface Mount; ComponentLink1Description: Manufacturer URL; ComponentLink1URL: http://www.linear.com/; ComponentLink2Description: Datasheet; ComponentLink2URL: http://cds.linear.com/docs/en/datasheet/3641fa.pdf; ComponentLink3Description: Package Specification; ComponentLink3URL: http://cds.linear.com/docs/en/packaging/05081663__J_FE28(EB).pdf
footprint LT-FE-28-EPV-EB_N (SOP, 28-Leads, Body 9.8x4.5mm, Pitch 0.65mm, Thermal Pad 4.75x2.74mm, IPC Medium Density)
footprint LT-FE-28-EPV-EB_L (SOP, 28-Leads, Body 9.8x4.5mm, Pitch 0.65mm, Thermal Pad 4.75x2.74mm, IPC High Density)
footprint LT-FE-28-EPV-EB_M (SOP, 28-Leads, Body 9.8x4.5mm, Pitch 0.65mm, Thermal Pad 4.75x2.74mm, IPC Low Density)
pins: 1 FB2 (in) "The low voltage converter regulates the FB2 pin to 600mV. Connect the feedback resistor divider tap to this pin to set output voltage.", 2 ~{PGOOD2} (oc) "Open-drain logic output that starts to sink current when FB2 is in regulation.", 3 EN/UVLO (in) "Pull this pin below 0.3V to shut down the LT3641. The 1.26V threshold can function as an accurate undervoltage lockout, preventing the LT3641 from operating until VIN voltage has reached the programmed level.", 4 SYNC (in) "Driving the SYNC pin with an external clock signal synchronizes both converters to the applied frequency. The lowest external clock frequency should be 20% higher than the internal oscillator frequency.", 5 SS1 (in) "The SS1 pin sets the FB1 voltage externally between 0V and 1.265V, providing soft-start and tracking. Tie this pin 1.5V or higher to use the internal 1.265V reference. A capacitor to ground at this pin sets the ramp time to (See Datasheet)", 6 FB1 (in) "The high voltage converter regulates the FB1 pin to 1.265V. Connect the feedback resistor divider tap to this pin to set output voltage.", 7 RT "Oscillator Resistor Input. Connecting a resistor to ground from this pin sets the internal oscillator frequency.", 8 ~{RST2} (oc) "Open-drain logic output that remains asserted for the period set by the CPOR pin capacitor after FB2 goes above 550mV.", 9 ~{RST1} (oc) "Open-drain logic output that remains asserted for the period set by the CPOR pin capacitor after FB1 goes above 1.165V.", 10 ~{WDO} (oc) "Open-drain logic output that remains asserted for the period set by the CPOR pin capacitor if W\D\E\ is enabled and WDI pin is not driven by an appropriate signal.", 11 CWDT (in) "Connect a capacitor to ground at this pin to set watchdog timer.", 12 CPOR (in) "Connect a capacitor to ground at this pin to set the power-on reset timer and W\D\O\ output timer.", 13 ~{WDE} (in) "Watchdog Enable Pin.", 14 WDI (in) "The WDI pin receives watchdog signals from a microprocessor.", 15 GND (power) "Ground. These pins must be soldered to PCB ground.", 16 GND (power) "Ground. These pins must be soldered to PCB ground.", 17 NC "Not Connected. This pin can be connected to ground.", 18 DA "The DA pin is used to sense the catch diode current for current limit and protection. Connect this pin to catch diode anode.", 19 SW1 (power) "Output of the High Voltage Internal Power Switch. Connect this pin to the inductor and catch diode cathode.", 20 SW "The SW pin is used to charge the boost capacitor. Connect this pin to the boost capacitor", 21 BST "The BST pin is used to provide a drive voltage, higher than VIN pin voltage, to the high voltage channel internal power switch. Connect an external boost diode to this pin.", 22 VIN (power) "The VIN pin supplies current to the LT3641’s internal circuitry and to the high voltage channel internal power switch. This pin must be locally bypassed.", 23 GND (power) "Ground. These pins must be soldered to PCB ground.", 24 VIN2 (power) "The VIN2 pin supplies current to the internal power MOSFET of the low voltage converter and to the LT3641’s internal circuitry when VIN2 is above 3V.", 25 SW2 (power) "Switch Node of the Low Voltage Converter. Connect this pin to an inductor.", 26 GND (power) "Ground. These pins must be soldered to PCB ground.", 27 EN2 (in) "Low Voltage Converter Enable Pin. The enable threshold is 100mV below FB1 target voltage. The disable threshold has 50mV hysteresis. The accurate threshold can function as an accurate undervoltage lockout.", 28 SS2 (in) "The SS2 pin sets the FB2 voltage externally between 0V and 0.6V, providing soft-start and tracking. Tie this pin 0.8V or higher to use the internal 0.6V reference. A capacitor to ground at this pin sets the ramp time to (See Datasheet)", 29 EP (power) "Ground. These pins must be soldered to PCB ground."